# Altium schematic symbol library M20-6102045.SchLib: 1 symbol
Pins are listed as number, name and electrical type; pins without a type are passive.

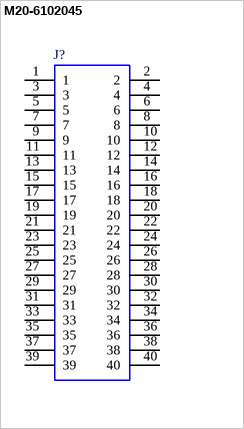
[diagram p0: symbol M20-6102045]

## M20-6102045
designator J?
PC / 104 Connectors PC104 STACK CONNECT 20+20 HI TEMP AU; Manufacturer_Name: Harwin; Geometry.Height: 11.05mm; Manufacturer_Part_Number: M20-6102045; Mouser Part Number: 855-M20-6102045; Mouser Price/Stock: https://www.mouser.co.uk/ProductDetail/Harwin/M20-6102045?qs=pYcASEcTDE4FwHXnSlfG3Q%3D%3D; Arrow Part Number: *; Arrow Price/Stock: *; Mouser Testing Part Number: *; Mouser Testing Price/Stock: *; Datasheet Link: https://datasheet.datasheetarchive.com/originals/distributors/SFDatasheet-1/sf-00022539.pdf
footprint RHDR40W66P254_2X20_5146X500X1105P
pins: 1, 2, 3, 4, 5, 6, 7, 8, 9, 10, 11, 12, 13, 14, 15, 16, 17, 18, 19, 20, 21, 22, 23, 24, 25, 26, 27, 28, 29, 30, 31, 32, 33, 34, 35, 36, 37, 38, 39, 40